# Altium footprint library 691 243 210 0xx.PcbLib: 8 footprints
Each footprint in its own frame and in the unit in brackets; x right, y up, seen from the top. Pads: shape width x height; smd on the part's side, far side on the other; paste and mask are expansions set on the pad; w line width, h text height; cw(c..) or ccw(c..) is an arc to the next point about the centre after c.
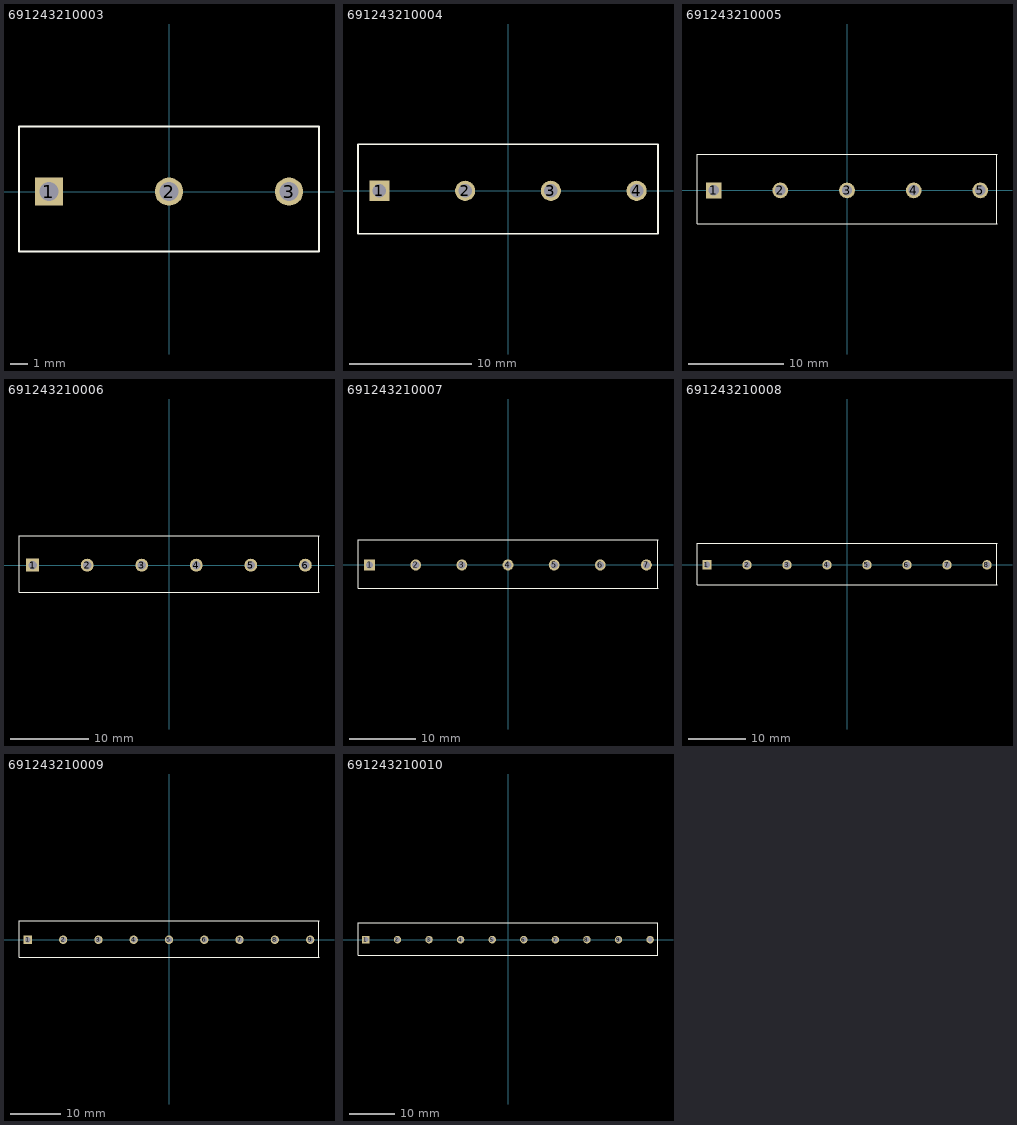
[diagram p0: the footprints below, top view; thin cyan lines are the x and y axes]

## 691243210003 [mm] "Serie 2432 - 7.00 mm _ 3 pins"
height 9.1
pads (3):
  rect 1.65x1.65 hole 1.1: 1(-7,0)
  round 1.65 hole 1.1: 2(0,0) 3(7,0)
Top Overlay:
  lines w0.127: -8.75,-3.5 -8.75,3.8 8.75,3.8 8.75,-3.5 -8.75,-3.5
3D body: height 9.1, standoff -3.5, extent -8.75,-3.5 8.75,3.8

## 691243210004 [mm] "Serie 2432 - 7.00 mm _ 4 pins"
height 9.1
pads (4):
  rect 1.65x1.65 hole 1.1: 1(-10.5,0)
  round 1.65 hole 1.1: 2(-3.5,0) 3(3.5,0) 4(10.5,0)
Top Overlay:
  lines w0.127: -12.25,-3.5 -12.25,3.8 12.25,3.8 12.25,-3.5 -12.25,-3.5
3D body: height 9.1, standoff -3.5, extent -12.25,-3.5 12.25,3.8

## 691243210005 [mm] "Serie 2432 - 7.00 mm _ 5 pins"
height 9.1
pads (5):
  rect 1.65x1.65 hole 1.1: 1(-14,0)
  round 1.65 hole 1.1: 2(-7,0) 3(0,0) 4(7,0) 5(14,0)
Top Overlay:
  lines w0.127: -15.75,-3.5 15.75,-3.5 15.75,3.8 -15.75,3.8 -15.75,-3.5
3D body: height 9.1, standoff -3.5, extent -15.75,-3.5 15.75,3.8

## 691243210006 [mm] "Serie 2432 - 7.00 mm _ 6 pins"
height 9.1
pads (6):
  rect 1.65x1.65 hole 1.1: 1(-17.5,0)
  round 1.65 hole 1.1: 2(-10.5,0) 3(-3.5,0) 4(3.5,0) 5(10.5,0) 6(17.5,0)
Top Overlay:
  lines w0.127: -19.25,-3.5 -19.25,3.8 19.25,3.8 19.25,-3.5 -19.25,-3.5
3D body: height 9.1, standoff -3.5, extent -19.25,-3.5 19.25,3.8

## 691243210007 [mm] "Serie 2432 - 7.00 mm _ 7 pins"
height 9.1
pads (7):
  rect 1.65x1.65 hole 1.1: 1(-21,0)
  round 1.65 hole 1.1: 2(-14,0) 3(-7,0) 4(0,0) 5(7,0) 6(14,0) 7(21,0)
Top Overlay:
  lines w0.127: -22.75,-3.5 -22.75,3.8 22.75,3.8 22.75,-3.5 -22.75,-3.5
3D body: height 9.1, standoff -3.5, extent -22.75,-3.5 22.75,3.8

## 691243210008 [mm] "Serie 2432 - 7.00 mm _ 8 pins"
height 9.1
pads (8):
  rect 1.65x1.65 hole 1.1: 1(-24.5,0)
  round 1.65 hole 1.1: 2(-17.5,0) 3(-10.5,0) 4(-3.5,0) 5(3.5,0) 6(10.5,0) 7(17.5,0) 8(24.5,0)
Top Overlay:
  lines w0.127: -26.25,-3.5 -26.25,3.8 26.25,3.8 26.25,-3.5 -26.25,-3.5
3D body: height 9.1, standoff -3.5, extent -26.25,-3.5 26.25,3.8

## 691243210009 [mm] "Serie 2432 - 7.00 mm _ 9 pins"
height 9.1
pads (9):
  rect 1.65x1.65 hole 1.1: 1(-28,0)
  round 1.65 hole 1.1: 2(-21,0) 3(-14,0) 4(-7,0) 5(0,0) 6(7,0) 7(14,0) 8(21,0) 9(28,0)
Top Overlay:
  lines w0.127: -29.75,-3.5 -29.75,3.8 29.75,3.8 29.75,-3.5 -29.75,-3.5
3D body: height 9.1, standoff -3.5, extent -29.75,-3.5 29.75,3.8

## 691243210010 [mm] "Serie 2432 - 7.00 mm _ 10 pins"
height 9.1
pads (10):
  rect 1.65x1.65 hole 1.1: 1(-31.5,0)
  round 1.65 hole 1.1: 2(-24.5,0) 3(-17.5,0) 4(-10.5,0) 5(-3.5,0) 6(3.5,0) 7(10.5,0) 8(17.5,0) 9(24.5,0) 10(31.5,0)
Top Overlay:
  lines w0.127: -33.25,-3.5 33.25,-3.5 33.25,3.8 -33.25,3.8 -33.25,-3.5
3D body: height 9.1, standoff -3.5, extent -33.25,-3.5 33.25,3.8